# EAGLE library part 24LC014H-I_MS (library Deegou_IC)
1K 128x8 2.5V Ser. EEPROM,24LC014H-I/MS Source: Datasheet <http://docs-europe.electrocomponents.com/webdocs/131f/0900766b8131f8dc.pdf>
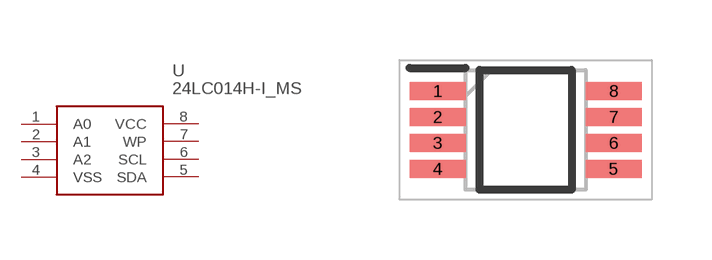
[diagram p92: symbol with the pads of SOP65P490X110-8N; footprint SOP65P490X110-8N]

Designator prefix U

## 24LC014H-I_MS (ALLIED_NUMBER: 70046865; ALLIED_PRICE/STOCK: http://www.alliedelec.com/microchip-technology-inc-24lc014h-i-ms/70046865/; ARROW_PART_NUMBER: 24LC014H-I/MS; ARROW_PRICE/STOCK: https://www.arrow.com/en/products/24lc014h-ims/microchip-technology; DESCRIPTION: 1K 128x8 2.5V Ser. EEPROM,24LC014H-I/MS; HEIGHT: 1.1mm; MANUFACTURER_NAME: Microchip; MANUFACTURER_PART_NUMBER: 24LC014H-I/MS; RS_PART_NUMBER: 6678208P; RS_PRICE/STOCK: http://uk.rs-online.com/web/p/products/6678208P)  [SOP65P490X110-8N]
1  A0
2  A1
3  A2
4  VSS  pwr
5  SDA
6  SCL
7  WP
8  VCC  pwr

## Footprint SOP65P490X110-8N (pad centres in mm)
8 Lead MS MSOP
smd 1.4 x 0.45: 1 -2.2,0.975; 2 -2.2,0.325; 3 -2.2,-0.325; 4 -2.2,-0.975; 5 2.2,-0.975; 6 2.2,-0.325; 7 2.2,0.325; 8 2.2,0.975